# EAGLE library part TL494CD (library (misc)-parts-that-we-use)
PULSE-WIDTH-MODULATION CONTROL CIRCUITS
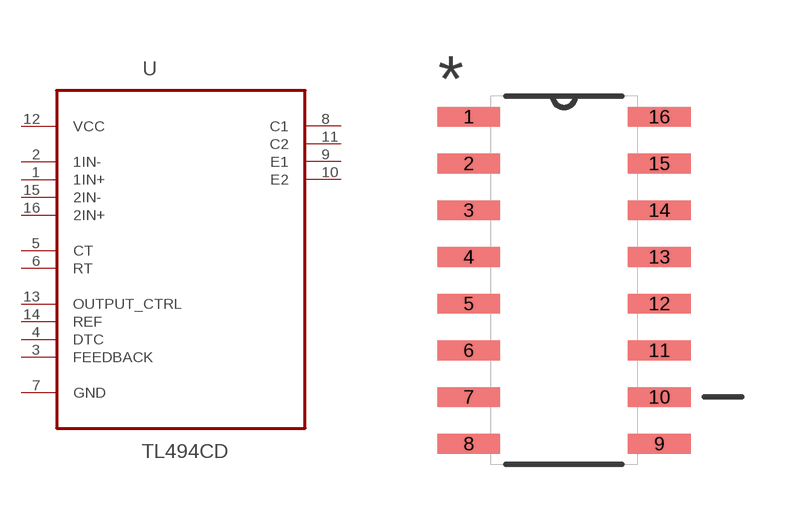
[diagram p7: symbol with the pads of SOIC127P600X175-16N; footprint SOIC127P600X175-16N]

Designator prefix U

## TL494CD (MPN: TL494CD; OC_FARNELL: 1470531; OC_NEWARK: 67K2881; PACKAGE: SOIC-16; SUPPLIER: TEXAS INSTRUMENTS)  [SOIC127P600X175-16N]
1  1IN+  in
2  1IN-  in
3  FEEDBACK  in
4  DTC  in
5  CT  in
6  RT  in
7  GND  pas
8  C1  out
9  E1  out
10  E2  out
11  C2  out
12  VCC  pwr
13  OUTPUT_CTRL  pas
14  REF  in
15  2IN-  in
16  2IN+  in

## Footprint SOIC127P600X175-16N (pad centres in mm)
smd 1.702 x 0.533: 1 -2.591,4.445; 2 -2.591,3.175; 3 -2.591,1.905; 4 -2.591,0.635; 5 -2.591,-0.635; 6 -2.591,-1.905; 7 -2.591,-3.175; 8 -2.591,-4.445; 9 2.591,-4.445; 10 2.591,-3.175; 11 2.591,-1.905; 12 2.591,-0.635; 13 2.591,0.635; 14 2.591,1.905; 15 2.591,3.175; 16 2.591,4.445